# Altium footprint library link.PcbLib: 3 footprints
Each footprint in its own frame and in the unit in brackets; x right, y up, seen from the top. Pads: shape width x height; smd on the part's side, far side on the other; paste and mask are expansions set on the pad; w line width, h text height; cw(c..) or ccw(c..) is an arc to the next point about the centre after c.
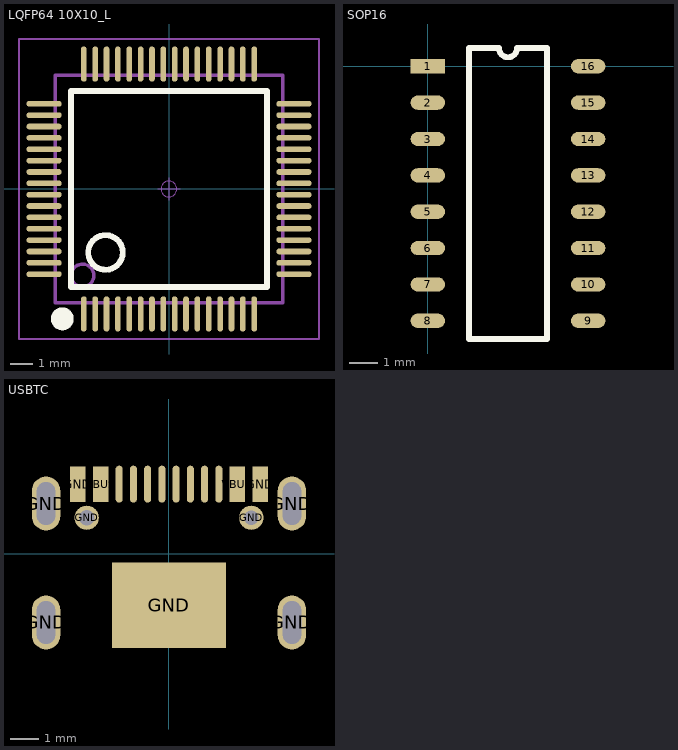
[diagram p0: the footprints below, top view; thin cyan lines are the x and y axes]

## LQFP64 10X10_L [mm] "64脚，体宽10x10mm，脚距0.5mm"
height 1.6
pads (64):
  oval 0.25x1.55 smd: 1(-3.75,-5.5) 2(-3.25,-5.5) 3(-2.75,-5.5) 4(-2.25,-5.5) 5(-1.75,-5.5) 6(-1.25,-5.5) 7(-0.75,-5.5) 8(-0.25,-5.5) 9(0.25,-5.5) 10(0.75,-5.5) 11(1.25,-5.5) 12(1.75,-5.5) 13(2.25,-5.5) 14(2.75,-5.5) 15(3.25,-5.5) 16(3.75,-5.5) 33(3.75,5.5) 34(3.25,5.5) 35(2.75,5.5) 36(2.25,5.5) 37(1.75,5.5) 38(1.25,5.5) 39(0.75,5.5) 40(0.25,5.5) 41(-0.25,5.5) 42(-0.75,5.5) 43(-1.25,5.5) 44(-1.75,5.5) 45(-2.25,5.5) 46(-2.75,5.5) 47(-3.25,5.5) 48(-3.75,5.5)
  oval 1.55x0.25 smd: 17(5.5,-3.75) 18(5.5,-3.25) 19(5.5,-2.75) 20(5.5,-2.25) 21(5.5,-1.75) 22(5.5,-1.25) 23(5.5,-0.75) 24(5.5,-0.25) 25(5.5,0.25) 26(5.5,0.75) 27(5.5,1.25) 28(5.5,1.75) 29(5.5,2.25) 30(5.5,2.75) 31(5.5,3.25) 32(5.5,3.75) 49(-5.499,3.75) 50(-5.499,3.25) 51(-5.499,2.75) 52(-5.499,2.25) 53(-5.499,1.75) 54(-5.499,1.25) 55(-5.499,0.75) 56(-5.499,0.25) 57(-5.499,-0.25) 58(-5.499,-0.75) 59(-5.499,-1.25) 60(-5.499,-1.75) 61(-5.499,-2.25) 62(-5.499,-2.75) 63(-5.499,-3.25) 64(-5.499,-3.75)
Top Overlay:
  circle w0.508: c-4.699,-5.715 r0.25
  circle w0.254: c-2.794,-2.794 r0.762
  lines w0.254: -4.318,-4.318 4.318,-4.318 4.318,4.318 -4.318,4.318 -4.318,-4.318
Mechanical 13:
  circle w0.15: c-3.81,-3.81 r0.5
  lines w0.15: -5,-5 5,-5 5,5 -5,5 -5,-5
Mechanical 15:
  circle w0.05: c0,0 r0.35
  lines w0.05: -0.5,0 0.5,0 ; 0,-0.5 0,0.5
  lines w0.1: -6.604,-6.604 6.604,-6.604 6.604,6.604 -6.604,6.604 -6.604,-6.604
3D body "LQFP64-10x10.STEP": height 1.45, standoff -0.01, extent -6.003,-6.003 6.003,6.003

## SOP16 [mm]
pads (16):
  rect 1.2x0.5 smd: 1(0,0)
  oval 1.2x0.5 smd: 2(0,-1.27) 3(0,-2.54) 4(0,-3.81) 5(0,-5.08) 6(0,-6.35) 7(0,-7.62) 8(0,-8.89) 9(5.6,-8.89) 10(5.6,-7.62) 11(5.6,-6.35) 12(5.6,-5.08) 13(5.6,-3.81) 14(5.6,-2.54) 15(5.6,-1.27) 16(5.6,0)
Top Overlay:
  lines w0.2: 1.435,-9.525 4.165,-9.525 4.165,0.635 3.117,0.635 cw(c2.8,0.635) 2.482,0.635 1.435,0.635 1.435,-9.525

## USBTC [mm]
pads (19):
  oval 0.25x1.3 smd paste-0.01 mask+0.03: CC1(-1.25,2.45) CC2(1.75,2.45) DN(-0.75,2.45) DN(0.25,2.45) DP(-0.25,2.45) DP(0.75,2.45) SBU1(1.25,2.45) SBU2(-1.75,2.45)
  oval 1x1.9 hole 0.65 slot 1.5 at 90 deg paste+0 mask+0.03: GND(-4.32,-2.41) GND(-4.32,1.77) GND(4.32,-2.41) GND(4.32,1.77)
  rect 0.55x1.25 smd paste-0.01 mask+0.03: GND(-3.2,2.45) GND(3.2,2.45) VBUS(-2.4,2.45) VBUS(2.4,2.45)
  round 0.85 hole 0.55 paste-1 mask+0: GND(-2.89,1.27)
  rect 4x3 smd mask+0.4: GND(0,-1.81)
  round 0.85 hole 0.5 paste-1 mask+0: GND(2.89,1.27)